# EAGLE library part PIC24FJXXGB004 (library lib_stankus)
Microchip PIC24FJXXGB004 MCU
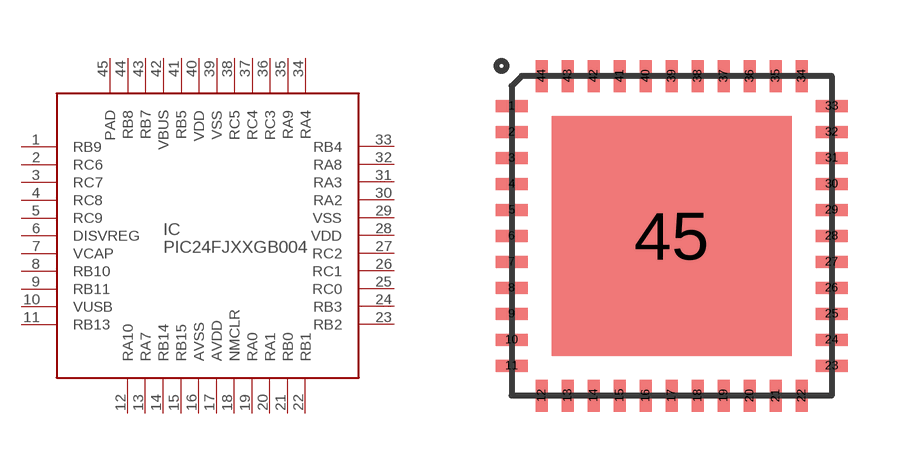
[diagram p29: symbol with the pads of QFN44_8_065; footprint QFN44_8_065]

Designator prefix IC

## PIC24FJXXGB004-QFN44  [QFN44_8_065]
1  RB9  pas
2  RC6  pas
3  RC7  pas
4  RC8  pas
5  RC9  pas
6  DISVREG  pas
7  VCAP  pas
8  RB10  pas
9  RB11  pas
10  VUSB  pas
11  RB13  pas
12  RA10  pas
13  RA7  pas
14  RB14  pas
15  RB15  pas
16  AVSS  pas
17  AVDD  pas
18  NMCLR  pas
19  RA0  pas
20  RA1  pas
21  RB0  pas
22  RB1  pas
23  RB2  pas
24  RB3  pas
25  RC0  pas
26  RC1  pas
27  RC2  pas
28  VDD  pas
29  VSS  pas
30  RA2  pas
31  RA3  pas
32  RA8  pas
33  RB4  pas
34  RA4  pas
35  RA9  pas
36  RC3  pas
37  RC4  pas
38  RC5  pas
39  VSS  pas
40  VDD  pas
41  RB5  pas
42  VBUS  pas
43  RB7  pas
44  RB8  pas
45  PAD  pas

## Footprint QFN44_8_065 (pad centres in mm)
QFN44, 8x8 MM, 0.65 MM
smd 0.8 x 0.3: 1 -4,3.25; 2 -4,2.6; 3 -4,1.95; 4 -4,1.3; 5 -4,0.65; 6 -4,0; 7 -4,-0.65; 8 -4,-1.3; 9 -4,-1.95; 10 -4,-2.6; 11 -4,-3.25; 23 4,-3.25; 24 4,-2.6; 25 4,-1.95; 26 4,-1.3; 27 4,-0.65; 28 4,0; 29 4,0.65; 30 4,1.3; 31 4,1.95; 32 4,2.6; 33 4,3.25
smd 0.3 x 0.8: 12 -3.25,-4; 13 -2.6,-4; 14 -1.95,-4; 15 -1.3,-4; 16 -0.65,-4; 17 0,-4; 18 0.65,-4; 19 1.3,-4; 20 1.95,-4; 21 2.6,-4; 22 3.25,-4; 34 3.25,4; 35 2.6,4; 36 1.95,4; 37 1.3,4; 38 0.65,4; 39 0,4; 40 -0.65,4; 41 -1.3,4; 42 -1.95,4; 43 -2.6,4; 44 -3.25,4
smd 6 x 6: 45 0,0